# Altium footprint library DIP762W50P254L483H445Q4.PcbLib: 1 footprints
Each footprint in its own frame and in the unit in brackets; x right, y up, seen from the top. Pads: shape width x height; smd on the part's side, far side on the other; paste and mask are expansions set on the pad; w line width, h text height; cw(c..) or ccw(c..) is an arc to the next point about the centre after c.
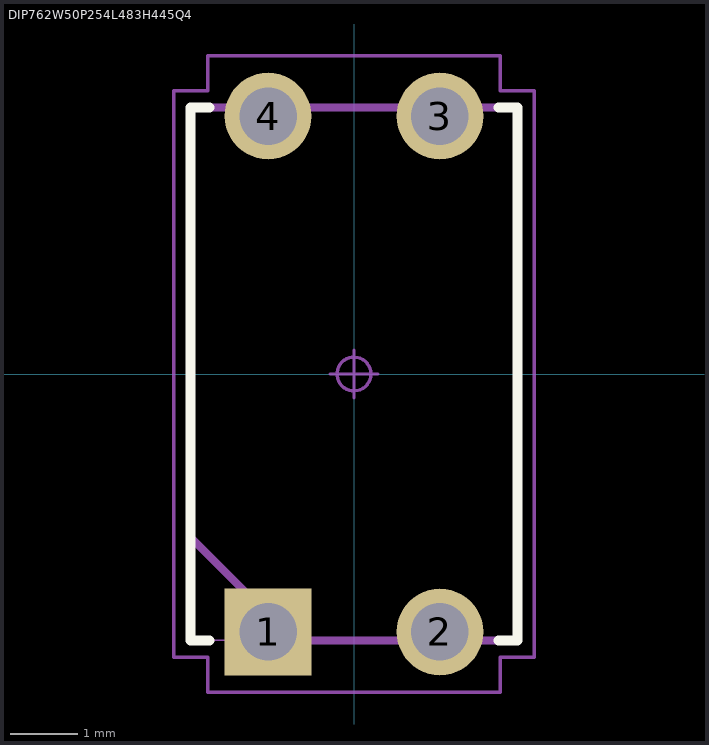
[diagram p0: the footprint, top view; thin cyan lines are the x and y axes]

## DIP762W50P254L483H445Q4 [mm] "DIP, 7.62 mm lead span, 2.54 mm pitch; 4 pin, 4.83 mm L X 7.87 mm W X 4.45 mm H body"
height 4.45
pads (4):
  rect 1.28x1.28 / inner round 1.28 / far side rect 1.28x1.28 hole 0.85 paste-1.28: 1(-1.27,-3.81)
  round 1.28 hole 0.85 paste-1.28: 2(1.27,-3.81) 3(1.27,3.81) 4(-1.27,3.81)
Top Overlay:
  lines w0.15: -2.135,-3.937 -2.415,-3.937 -2.415,3.935 -2.135,3.935 ; 2.135,-3.935 2.415,-3.935 2.415,3.935 2.135,3.935
Mechanical 3:
  lines w0.12: -2.415,-2.411 -2.415,3.935 2.415,3.935 2.415,-3.935 -0.891,-3.935 -2.415,-2.411
Mechanical 5:
  lines w0.025: -1.57,-3.985 -1.57,-3.635 -0.97,-3.635 -0.97,-3.985 -1.57,-3.985 ; -1.57,3.635 -1.57,3.985 -0.97,3.985 -0.97,3.635 -1.57,3.635 ; 0.97,-3.985 0.97,-3.635 1.57,-3.635 1.57,-3.985 0.97,-3.985 ; 0.97,3.635 0.97,3.985 1.57,3.985 1.57,3.635 0.97,3.635
Mechanical 7:
  circle w0.05: c0,0 r0.25
  lines w0.025: -2.415,-3.935 2.415,-3.935 2.415,3.935 -2.415,3.935 -2.415,-3.935
  lines w0.05: -0.35,0 0.35,0 ; 0,-0.35 0,0.35 ; -2.665,-4.185 -2.16,-4.185 -2.16,-4.7 2.16,-4.7 2.16,-4.185 2.665,-4.185 2.665,4.185 2.16,4.185 2.16,4.7 -2.16,4.7 -2.16,4.185 -2.665,4.185 -2.665,-4.185
Mechanical 9 (Mech9):
  text ".Designator" at -3.556,5.461 h0.76
3D body "DIP762W50P254L483H445Q4.STEP": height 4.45, standoff 0.38, extent -2.415,-3.935 2.415,3.935
3D body "DIP762W50P254L483H445Q4.STEP": height 4.45, standoff 0.38, extent -2.415,-3.935 2.415,3.935